# Altium footprint library Ctrl_FOC.PcbLib: 51 footprints (part 3 of 4)
Each footprint in its own frame and in the unit in brackets; x right, y up, seen from the top. Pads: shape width x height; smd on the part's side, far side on the other; paste and mask are expansions set on the pad; w line width, h text height; cw(c..) or ccw(c..) is an arc to the next point about the centre after c.
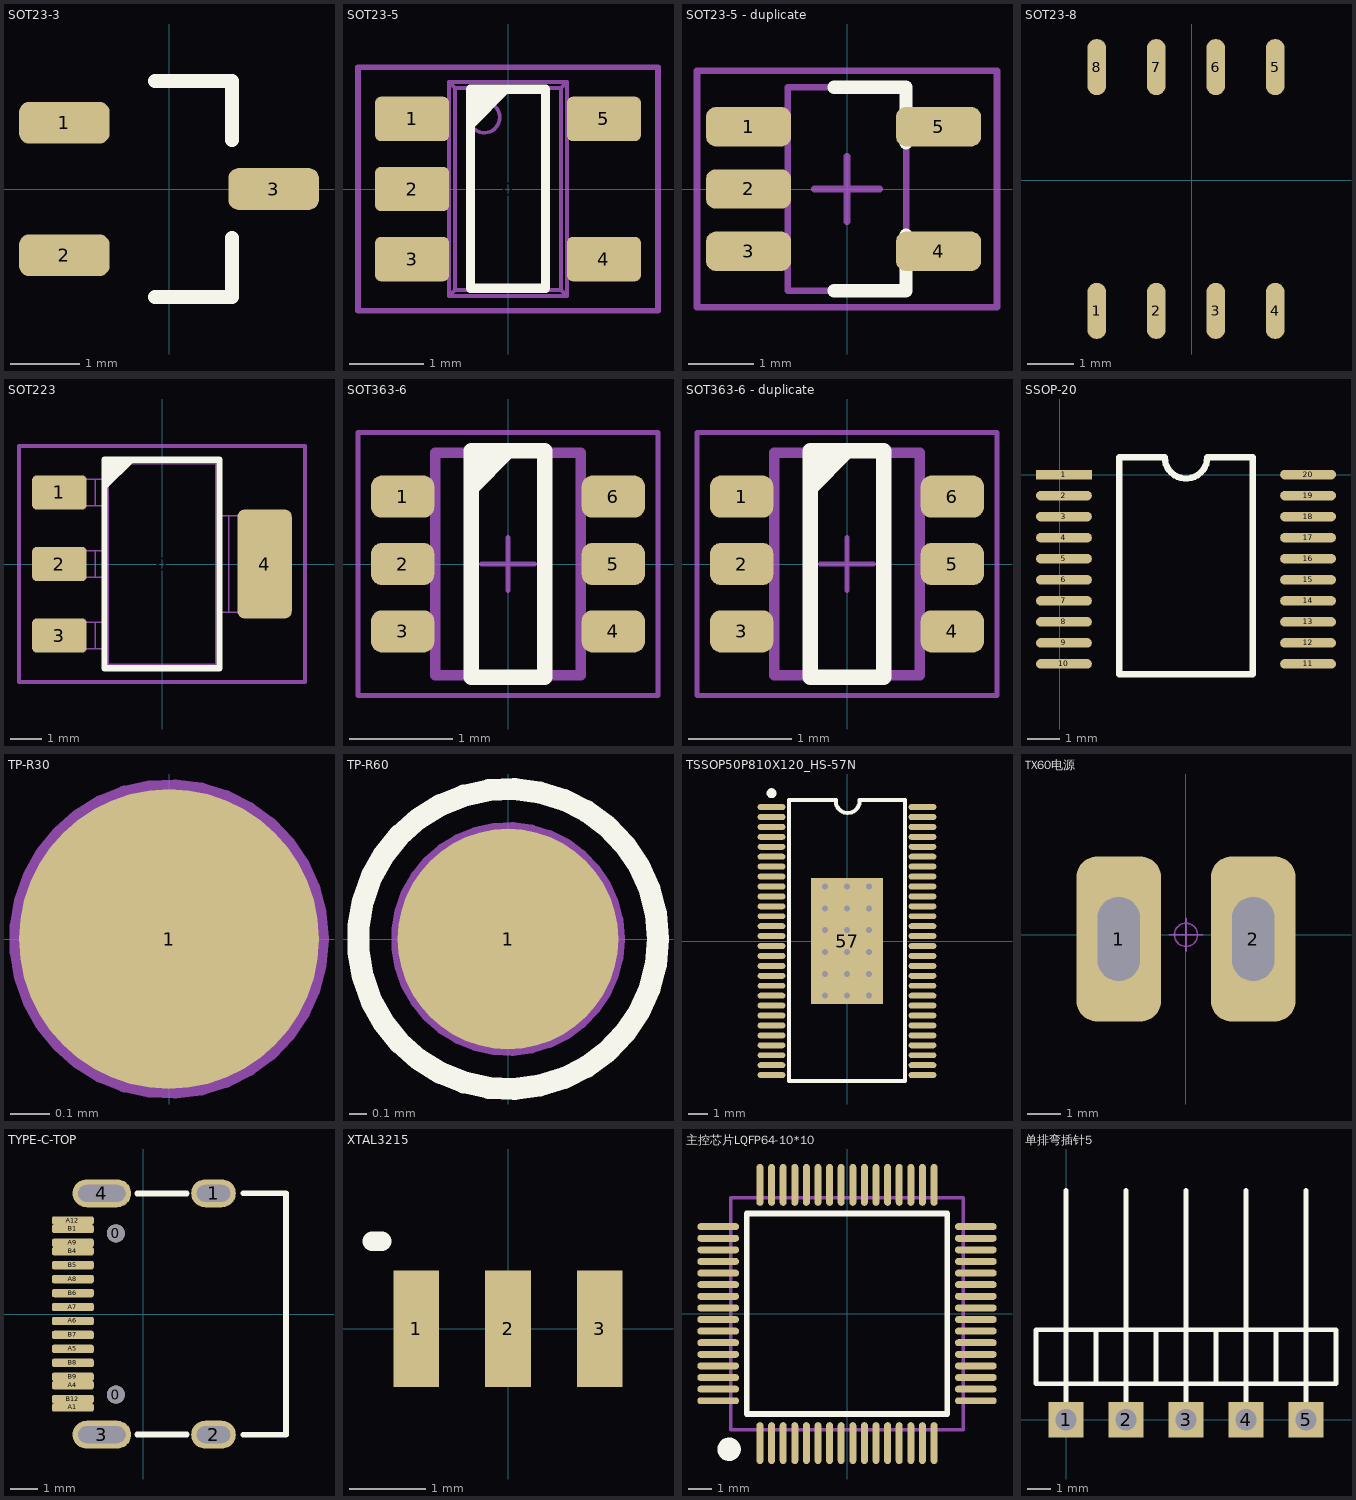
[diagram p2: the footprints below, top view; thin cyan lines are the x and y axes]

## SOT23-3 [mm] "SOT23, 3-Leads, Body 3.1x3.0mm (max), Pitch 0.95mm, IPC Medium Density"
height 1.2
pads (3):
  rrect50% 1.3x0.6 smd: 1(-1.5,0.95) 2(-1.5,-0.95) 3(1.5,0)
Top Overlay:
  lines w0.2: -0.2,-1.55 0.9,-1.55 0.9,-0.7 ; -0.2,1.55 0.9,1.55 0.9,0.7
3D body "SOT-23-3.stp": height 1.2, standoff 0, extent -1.298,-1.45 1.502,1.45

## SOT23-5 [mm]
height 1.6
pads (6):
  round 0.5 on Mech15: 0(0,0)
  rrect25% 1x0.6 smd: 1(-1.3,0.95) 2(-1.3,0) 3(-1.3,-0.95) 4(1.3,-0.95) 5(1.3,0.95)
Top Overlay:
  region: -0.508,1.353 0.053,1.353 -0.508,0.792
  lines w0.127: -0.508,-1.347 0.508,-1.347 0.508,1.353 -0.508,1.353 -0.508,-1.347
  text "." at -2.275,0.95 h0.1
Mechanical 13:
  circle w0.05: c-0.32,0.97 r0.208
  lines w0.05: -1.191,-1.15 -1.191,-0.75 ; -1.191,-0.2 -1.191,0.2 ; -1.191,0.75 -1.191,1.15 ; -1.1,-1.15 -1.1,-0.75 ; -1.1,-0.2 -1.1,0.2 ; -1.1,0.75 -1.1,1.15 ; -1.094,-1.15 -1.094,-0.75 ; -1.094,-0.2 -1.094,0.2 ; -1.094,0.75 -1.094,1.15 ; -0.844,-1.15 -0.844,-0.75 ; -0.844,-0.2 -0.844,0.2 ; -0.844,0.75 -0.844,1.15 ; -0.8,-1.15 -1.4,-1.15 -1.4,-0.75 -0.8,-0.75 ; -0.8,-0.2 -1.4,-0.2 -1.4,0.2 -0.8,0.2 ; -0.8,0.75 -1.4,0.75 -1.4,1.15 -0.8,1.15 ; 0.8,-1.15 1.4,-1.15 1.4,-0.75 0.8,-0.75 ; 0.8,0.75 1.4,0.75 1.4,1.15 0.8,1.15 ; 0.844,-1.15 0.844,-0.75 ; 0.844,0.75 0.844,1.15 ; 1.094,-1.15 1.094,-0.75 ; 1.094,0.75 1.094,1.15 ; 1.1,-1.15 1.1,-0.75 ; 1.1,0.75 1.1,1.15 ; 1.191,-1.15 1.191,-0.75 ; 1.191,0.75 1.191,1.15 ; -0.8,-1.45 0.8,-1.45 ; -0.8,-1.45 -0.719,-1.369 ; -0.8,-1.45 -0.8,1.45 ; -0.8,1.45 0.8,1.45 ; -0.8,1.45 -0.719,1.369 ; -0.719,-1.369 -0.719,1.369 ; -0.719,-1.369 0.719,-1.369 ; -0.719,1.369 0.719,1.369 ; 0.719,-1.369 0.719,1.369 ; 0.719,-1.369 0.8,-1.45 ; 0.719,1.369 0.8,1.45 ; 0.8,-1.45 0.8,1.45
Mechanical 15:
  lines w0.076: -2.032,-1.651 2.032,-1.651 2.032,1.651 -2.032,1.651 -2.032,-1.651
3D body "SOT23-5.STEP": height 1.44, standoff -0.01, extent -1.4,-1.45 1.4,1.45

## SOT23-5 - duplicate [mm] "SOT23, 3-Leads, Body 3.1x3.0mm (max), Pitch 0.95mm, IPC Medium Density"
height 1.2
pads (5):
  rrect50% 1.3x0.6 smd: 1(-1.5,0.95) 2(-1.5,0) 3(-1.5,-0.95) 4(1.396,-0.95) 5(1.396,0.95)
Top Overlay:
  lines w0.2: -0.2,-1.55 0.9,-1.55 0.9,-0.7 ; -0.2,1.55 0.9,1.55 0.9,0.7
Mechanical 13:
  lines w0.1: -0.9,-1.55 0.9,-1.55 0.9,1.55 -0.9,1.55 -0.9,-1.55
Mechanical 15:
  lines w0.1: -0.5,0 0.5,0 ; 0,-0.5 0,0.5 ; -2.286,-1.8 2.286,-1.8 2.286,1.8 -2.286,1.8 -2.286,-1.8
3D body "PCB1.stp": height 1.2, standoff 0, extent -1.476,-1.452 1.324,1.448

## SOT23-8 [mm]
height 0.8
pads (8):
  oval 0.4x1.2 smd: 1(-2.032,-2.794) 2(-0.762,-2.794) 3(0.508,-2.794) 4(1.778,-2.794) 5(1.778,2.413) 6(0.508,2.413) 7(-0.762,2.413) 8(-2.032,2.413)
3D body "SO-8.STEP": height 1.7, standoff 0, extent -2.577,-3.127 2.323,2.873

## SOT223 [mm] "SOT223 /SC-73"
height 1.524
pads (5):
  round 1 on Mech15: 0(0,0)
  rrect25% 1.75x1.1 smd: 1(-3.3,2.3) 2(-3.3,0) 3(-3.3,-2.3)
  rrect25% 1.75x3.5 smd: 4(3.3,0)
Top Overlay:
  region: -1.85,3.35 -0.85,3.35 -1.85,2.35
  lines w0.2: -1.85,-3.35 1.85,-3.35 1.85,3.35 -1.85,3.35 -1.85,-3.35
Mechanical 13:
  lines w0.05: -3.186,-2.72 -3.186,-1.88 ; -3.186,-0.42 -3.186,0.42 ; -3.186,1.88 -3.186,2.72 ; -3.062,-2.72 -3.062,-1.88 ; -3.062,-0.42 -3.062,0.42 ; -3.062,1.88 -3.062,2.72 ; -2.506,-2.72 -2.506,-1.88 ; -2.506,-0.42 -2.506,0.42 ; -2.506,1.88 -2.506,2.72 ; -2.152,-2.72 -2.152,-1.88 ; -2.152,-0.42 -2.152,0.42 ; -2.152,1.88 -2.152,2.72 ; -1.85,-2.72 -1.85,-3.35 ; -1.85,-1.88 -1.85,-0.42 ; -1.85,0.42 -1.85,1.88 ; -1.85,2.72 -1.85,3.35 ; 1.85,-1.55 1.85,-3.35 ; 1.85,1.55 1.85,3.35 ; 2.152,-1.55 2.152,1.55 ; 2.506,-1.55 2.506,1.55 ; 3.062,-1.55 3.062,1.55 ; 3.186,-1.55 3.186,1.55 ; -1.85,-3.35 1.85,-3.35 ; -1.85,-3.35 -1.731,-3.231 ; -1.85,3.35 1.85,3.35 ; -1.85,3.35 -1.731,3.231 ; -1.731,-3.231 -1.731,3.231 ; -1.731,-3.231 1.731,-3.231 ; -1.731,3.231 1.731,3.231 ; 1.731,-3.231 1.731,3.231 ; 1.731,-3.231 1.85,-3.35 ; 1.731,3.231 1.85,3.35 ; -3.65,-2.72 -1.829,-2.72 -1.829,-1.88 -3.65,-1.88 -3.65,-2.72 ; -3.65,-0.42 -1.829,-0.42 -1.829,0.42 -3.65,0.42 -3.65,-0.42 ; -3.65,1.88 -1.829,1.88 -1.829,2.72 -3.65,2.72 -3.65,1.88 ; 1.829,-1.55 1.829,1.55 3.65,1.55 3.65,-1.55 1.829,-1.55
Mechanical 15:
  lines w0.127: -4.6,-3.8 4.6,-3.8 4.6,3.8 -4.6,3.8 -4.6,-3.8
3D body "SOT223-4.STEP": height 1.8, standoff 0, extent -3.65,-3.35 3.65,3.35

## SOT363-6 [mil]
height 43.31
pads (6):
  rrect50% 24x16 smd: 1(-40,25.59) 2(-40,0) 3(-40,-25.59) 4(40,-25.59) 5(40,0) 6(40,25.59)
Top Overlay:
  region: -14,43 0,43 -14,29
  lines w6: -14,29 0,43 ; -14,-43 14,-43 14,43 -14,43 -14,-43
Mechanical 13:
  lines w2: -10,0 10,0 ; 0,-10 0,10
  lines w4: -27.56,-42.32 27.56,-42.32 27.56,42.32 -27.56,42.32 -27.56,-42.32
Mechanical 14:
  lines w2: -57,-50 57,-50 57,50 -57,50 -57,-50
3D body "SW3dPS-SC70-6.STEP": height 36.73, standoff -0.67, extent -41.33,-39.37 41.35,39.37

## SOT363-6 - duplicate [mil]
height 43.31
pads (6):
  rrect50% 24x16 smd: 1(-40,25.59) 2(-40,0) 3(-40,-25.59) 4(40,-25.59) 5(40,0) 6(40,25.59)
Top Overlay:
  region: -14,43 0,43 -14,29
  lines w6: -14,29 0,43 ; -14,-43 14,-43 14,43 -14,43 -14,-43
Mechanical 13:
  lines w2: -10,0 10,0 ; 0,-10 0,10
  lines w4: -27.56,-42.32 27.56,-42.32 27.56,42.32 -27.56,42.32 -27.56,-42.32
Mechanical 14:
  lines w2: -57,-50 57,-50 57,50 -57,50 -57,-50
3D body "SW3dPS-SC70-6.STEP": height 36.73, standoff -0.67, extent -41.33,-39.37 41.35,39.37

## SSOP-20 [mm]
pads (20):
  rect 1.727x0.3 smd: 1(0.127,0)
  oval 1.727x0.3 smd: 2(0.127,-0.65) 3(0.127,-1.3) 4(0.127,-1.95) 5(0.127,-2.6) 6(0.127,-3.25) 7(0.127,-3.9) 8(0.127,-4.55) 9(0.127,-5.2) 10(0.127,-5.85) 11(7.673,-5.85) 12(7.673,-5.2) 13(7.673,-4.55) 14(7.673,-3.9) 15(7.673,-3.25) 16(7.673,-2.6) 17(7.673,-1.95) 18(7.673,-1.3) 19(7.673,-0.65) 20(7.673,0)
Top Overlay:
  lines w0.2: 1.835,-6.175 1.835,0.533 3.245,0.533 ccw(c3.9,0.533) 4.555,0.533 5.965,0.533 5.965,-6.175 1.835,-6.175
3D body "SSOP-20.STEP": height 1.79, standoff -0.05, extent -0.013,-6.52 7.887,0.78

## TP-R30 [mil]
pads (1):
  round 30 smd paste-30 mask+3: 1(0,0)
Mechanical 13:
  circle w1.97: c0,0 r15
3D body: height 10, standoff 0, extent -17.86,-17.96 18,17.97

## TP-R60 [mm]
pads (1):
  round 1.27 smd paste-1.27: 1(0,0)
Top Overlay:
  circle w0.127: c0,0 r0.864
Mechanical 13:
  circle w0.076: c0,0 r0.635
3D body: height 0.25, standoff 0, extent -0.756,-0.76 0.762,0.76

## TSSOP50P810X120_HS-57N [mm] "TSSOP, 56-Leads, Body 14.00x6.10mm, Pitch 0.50mm, Thermal Pad 6.35x3.61mm, IPC Medium Density"
height 1.2
pads (57):
  oval 1.4x0.3 smd: 1(-3.8,6.75) 2(-3.8,6.25) 3(-3.8,5.75) 4(-3.8,5.25) 5(-3.8,4.75) 6(-3.8,4.25) 7(-3.8,3.75) 8(-3.8,3.25) 9(-3.8,2.75) 10(-3.8,2.25) 11(-3.8,1.75) 12(-3.8,1.25) 13(-3.8,0.75) 14(-3.8,0.25) 15(-3.8,-0.25) 16(-3.8,-0.75) 17(-3.8,-1.25) 18(-3.8,-1.75) 19(-3.8,-2.25) 20(-3.8,-2.75) 21(-3.8,-3.25) 22(-3.8,-3.75) 23(-3.8,-4.25) 24(-3.8,-4.75) 25(-3.8,-5.25) 26(-3.8,-5.75) 27(-3.8,-6.25) 28(-3.8,-6.75) 29(3.8,-6.75) 30(3.8,-6.25) 31(3.8,-5.75) 32(3.8,-5.25) 33(3.8,-4.75) 34(3.8,-4.25) 35(3.8,-3.75) 36(3.8,-3.25) 37(3.8,-2.75) 38(3.8,-2.25) 39(3.8,-1.75) 40(3.8,-1.25) 41(3.8,-0.75) 42(3.8,-0.25) 43(3.8,0.25) 44(3.8,0.75) 45(3.8,1.25) 46(3.8,1.75) 47(3.8,2.25) 48(3.8,2.75) 49(3.8,3.25) 50(3.8,3.75) 51(3.8,4.25) 52(3.8,4.75) 53(3.8,5.25) 54(3.8,5.75) 55(3.8,6.25) 56(3.8,6.75)
  rect 3.61x6.35 smd: 57(0,0)
via -1.1,2.75 diameter 0.7 hole 0.3
via 0,2.75 diameter 0.7 hole 0.3
via 1.1,2.75 diameter 0.7 hole 0.3
via -1.1,1.65 diameter 0.7 hole 0.3
via 0,1.65 diameter 0.7 hole 0.3
via 1.1,1.65 diameter 0.7 hole 0.3
via -1.1,0.55 diameter 0.7 hole 0.3
via 0,0.55 diameter 0.7 hole 0.3
via 1.1,0.55 diameter 0.7 hole 0.3
via 0,-0.55 diameter 0.7 hole 0.3
via 1.1,-0.55 diameter 0.7 hole 0.3
via 0,-1.65 diameter 0.7 hole 0.3
via 1.1,-1.65 diameter 0.7 hole 0.3
via 0,-2.75 diameter 0.7 hole 0.3
via 1.1,-2.75 diameter 0.7 hole 0.3
via -1.1,-0.55 diameter 0.7 hole 0.3
via -1.1,-2.75 diameter 0.7 hole 0.3
via -1.1,-1.65 diameter 0.7 hole 0.3
Top Overlay:
  circle w0.25: c-3.8,7.45 r0.125
  lines w0.2: -2.921,-7.05 2.921,-7.05 2.921,7.112 0.635,7.112 cw(c0.035,7.057) -0.565,7.112 -2.921,7.112 -2.921,-7.05
Mechanical 15:
  lines w0.1: -0.5,0 0.5,0 ; 0,-0.5 0,0.5
3D body: height 1.2, standoff 0.05, extent -3.1,-7.05 3.1,7.05

## TX60电源 [mil] "长：18.8mm， 宽：16mm，高：8.6mm"
pads (2):
  rrect50% 100.85x196.85 hole 100 slot 50 at 0 deg: 1(-80,-5) 2(80,-5)
Mechanical 15:
  circle w1.97: c0,0 r13.78
  lines w1.97: -19.68,0 19.68,0 ; 0,-19.68 0,19.68

## TYPE-C-TOP [mm]
pads (22):
  round 0.65 hole 0.65: 0(-0.98,-2.89) 0(-0.98,2.89)
  oval 1.6x1 hole 0.6 slot 1.2 at 0 deg: 1(2.52,4.325) 2(2.52,-4.325)
  oval 2.1x1 hole 0.6 slot 1.7 at 0 deg: 3(-1.48,-4.325) 4(-1.48,4.325)
  rrect50% 1.5x0.3 smd: A1(-2.52,-3.35) A4(-2.52,-2.55) A5(-2.52,-1.25) A6(-2.52,-0.25) A7(-2.52,0.25) A8(-2.52,1.25) A9(-2.52,2.55) A12(-2.52,3.35) B1(-2.52,3.05) B4(-2.52,2.25) B5(-2.52,1.75) B6(-2.52,0.75) B7(-2.52,-0.75) B8(-2.52,-1.75) B9(-2.52,-2.25) B12(-2.52,-3.05)
Top Overlay:
  lines w0.203: -0.218,-4.318 1.56,-4.318 ; -0.218,4.318 1.56,4.318 ; 3.592,-4.325 5.12,-4.325 5.12,4.325 3.592,4.325
3D body "User Library-1054500101.STEP": height 3.28, standoff -0.68, extent -2.645,-4.476 5.255,4.464

## XTAL3215 [mm]
height 0.8
pads (3):
  rect 0.6x1.524 smd: 1(-1.2,0) 2(0,0) 3(1.2,0)
Top Overlay:
  lines w0.254: -1.778,1.143 -1.651,1.143
3D body: height 0.8, standoff 0, extent -1.524,-0.762 1.524,0.762

## 主控芯片LQFP64-10*10 [mm] "10x10mm，0.5mm       淘宝ID:黄晶宝石"
height 1.6
pads (64):
  oval 0.3x1.8 smd: 1(-3.75,-5.575) 2(-3.25,-5.575) 3(-2.75,-5.575) 4(-2.25,-5.575) 5(-1.75,-5.575) 6(-1.25,-5.575) 7(-0.75,-5.575) 8(-0.25,-5.575) 9(0.25,-5.575) 10(0.75,-5.575) 11(1.25,-5.575) 12(1.75,-5.575) 13(2.25,-5.575) 14(2.75,-5.575) 15(3.25,-5.575) 16(3.75,-5.575) 33(3.75,5.55) 34(3.25,5.55) 35(2.75,5.55) 36(2.25,5.55) 37(1.75,5.55) 38(1.25,5.55) 39(0.75,5.55) 40(0.25,5.55) 41(-0.25,5.55) 42(-0.75,5.55) 43(-1.25,5.55) 44(-1.75,5.55) 45(-2.25,5.55) 46(-2.75,5.55) 47(-3.25,5.55) 48(-3.75,5.55)
  oval 1.8x0.3 smd: 17(5.55,-3.75) 18(5.55,-3.25) 19(5.55,-2.75) 20(5.55,-2.25) 21(5.55,-1.75) 22(5.55,-1.25) 23(5.55,-0.75) 24(5.55,-0.25) 25(5.55,0.25) 26(5.55,0.75) 27(5.55,1.25) 28(5.55,1.75) 29(5.55,2.25) 30(5.55,2.75) 31(5.55,3.25) 32(5.55,3.75) 49(-5.55,3.75) 50(-5.55,3.25) 51(-5.55,2.75) 52(-5.55,2.25) 53(-5.55,1.75) 54(-5.55,1.25) 55(-5.55,0.75) 56(-5.55,0.25) 57(-5.55,-0.25) 58(-5.55,-0.75) 59(-5.55,-1.25) 60(-5.55,-1.75) 61(-5.55,-2.25) 62(-5.55,-2.75) 63(-5.55,-3.25) 64(-5.55,-3.75)
Top Overlay:
  circle w0.508: c-5.08,-5.842 r0.25
  lines w0.254: -4.318,-4.318 4.318,-4.318 4.318,4.318 -4.318,4.318 -4.318,-4.318
Mechanical 13:
  lines w0.15: -5,-5 5,-5 5,5 -5,5 -5,-5
3D body "LQFP64-10x10.STEP": height 1.45, standoff 0, extent -6.003,-6.003 6.003,6.003

## 单排弯插针5 [mm]
pads (5):
  rect 1.5x1.5 hole 0.9: 1(0,0) 2(2.54,0) 3(5.08,0) 4(7.62,0) 5(10.16,0)
Top Overlay:
  lines w0.203: 0,0.025 0,9.708 ; 2.54,0.025 2.54,9.708 ; 5.08,0.025 5.08,9.708 ; 7.62,0.025 7.62,9.708 ; 10.16,0.025 10.16,9.708 ; 1.27,1.524 1.27,3.81 ; 1.27,1.524 -1.27,1.524 -1.27,3.81 1.27,3.81 ; 1.27,1.524 3.81,1.524 ; 1.27,3.81 3.81,3.81 ; 3.81,1.524 3.81,3.81 ; 3.81,1.524 6.35,1.524 ; 3.81,3.81 6.35,3.81 ; 6.35,1.524 6.35,3.81 ; 6.35,1.524 8.89,1.524 ; 6.35,3.81 8.89,3.81 ; 8.89,1.524 8.89,3.81 ; 8.89,1.524 11.43,1.524 11.43,3.81 8.89,3.81
3D body "User Library-Header_Male_RA_Low_1Pin.STEP": height 2.51, standoff -3, extent -1.27,-0.32 1.27,9.81
3D body "User Library-Header_Male_RA_Low_1Pin.STEP": height 2.51, standoff -3, extent 1.27,-0.32 3.81,9.81
3D body "User Library-Header_Male_RA_Low_1Pin.STEP": height 2.51, standoff -3, extent 3.81,-0.32 6.35,9.81
3D body "User Library-Header_Male_RA_Low_1Pin.STEP": height 2.51, standoff -3, extent 6.35,-0.32 8.89,9.81
3D body "User Library-Header_Male_RA_Low_1Pin.STEP": height 2.51, standoff -3, extent 8.89,-0.32 11.43,9.81